# EAGLE library part 24LC256 (library 24LC256 EEPROM)
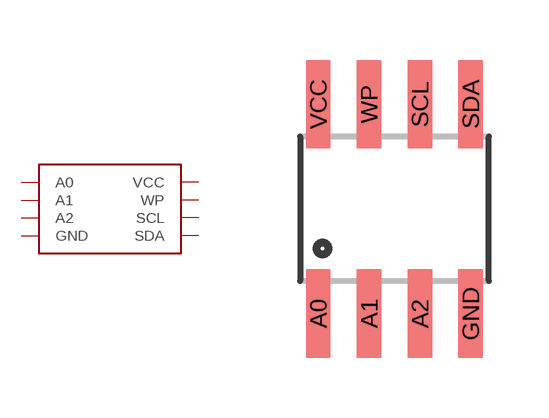
[diagram p0: symbol with the pads of 24LC256; footprint 24LC256]

Designator prefix IC

## 24LC256  [24LC256]
A0  A0
A1  A1
A2  A2
GND  GND
SCL  SCL
SDA  SDA
VCC  VCC
WP  WP

## Footprint 24LC256 (pad centres in mm)
smd 0.61 x 2.21: A0 -1.905,-1.346; A1 -0.635,-1.346; A2 0.635,-1.346; GND 1.905,-1.346; SCL 0.635,3.886; SDA 1.905,3.886; VCC -1.905,3.886; WP -0.635,3.886